# Altium footprint library Capacitor_SMD.PcbLib: 89 footprints (part 2 of 6)
Each footprint in its own frame and in the unit in brackets; x right, y up, seen from the top. Pads: shape width x height; smd on the part's side, far side on the other; paste and mask are expansions set on the pad; w line width, h text height; cw(c..) or ccw(c..) is an arc to the next point about the centre after c.
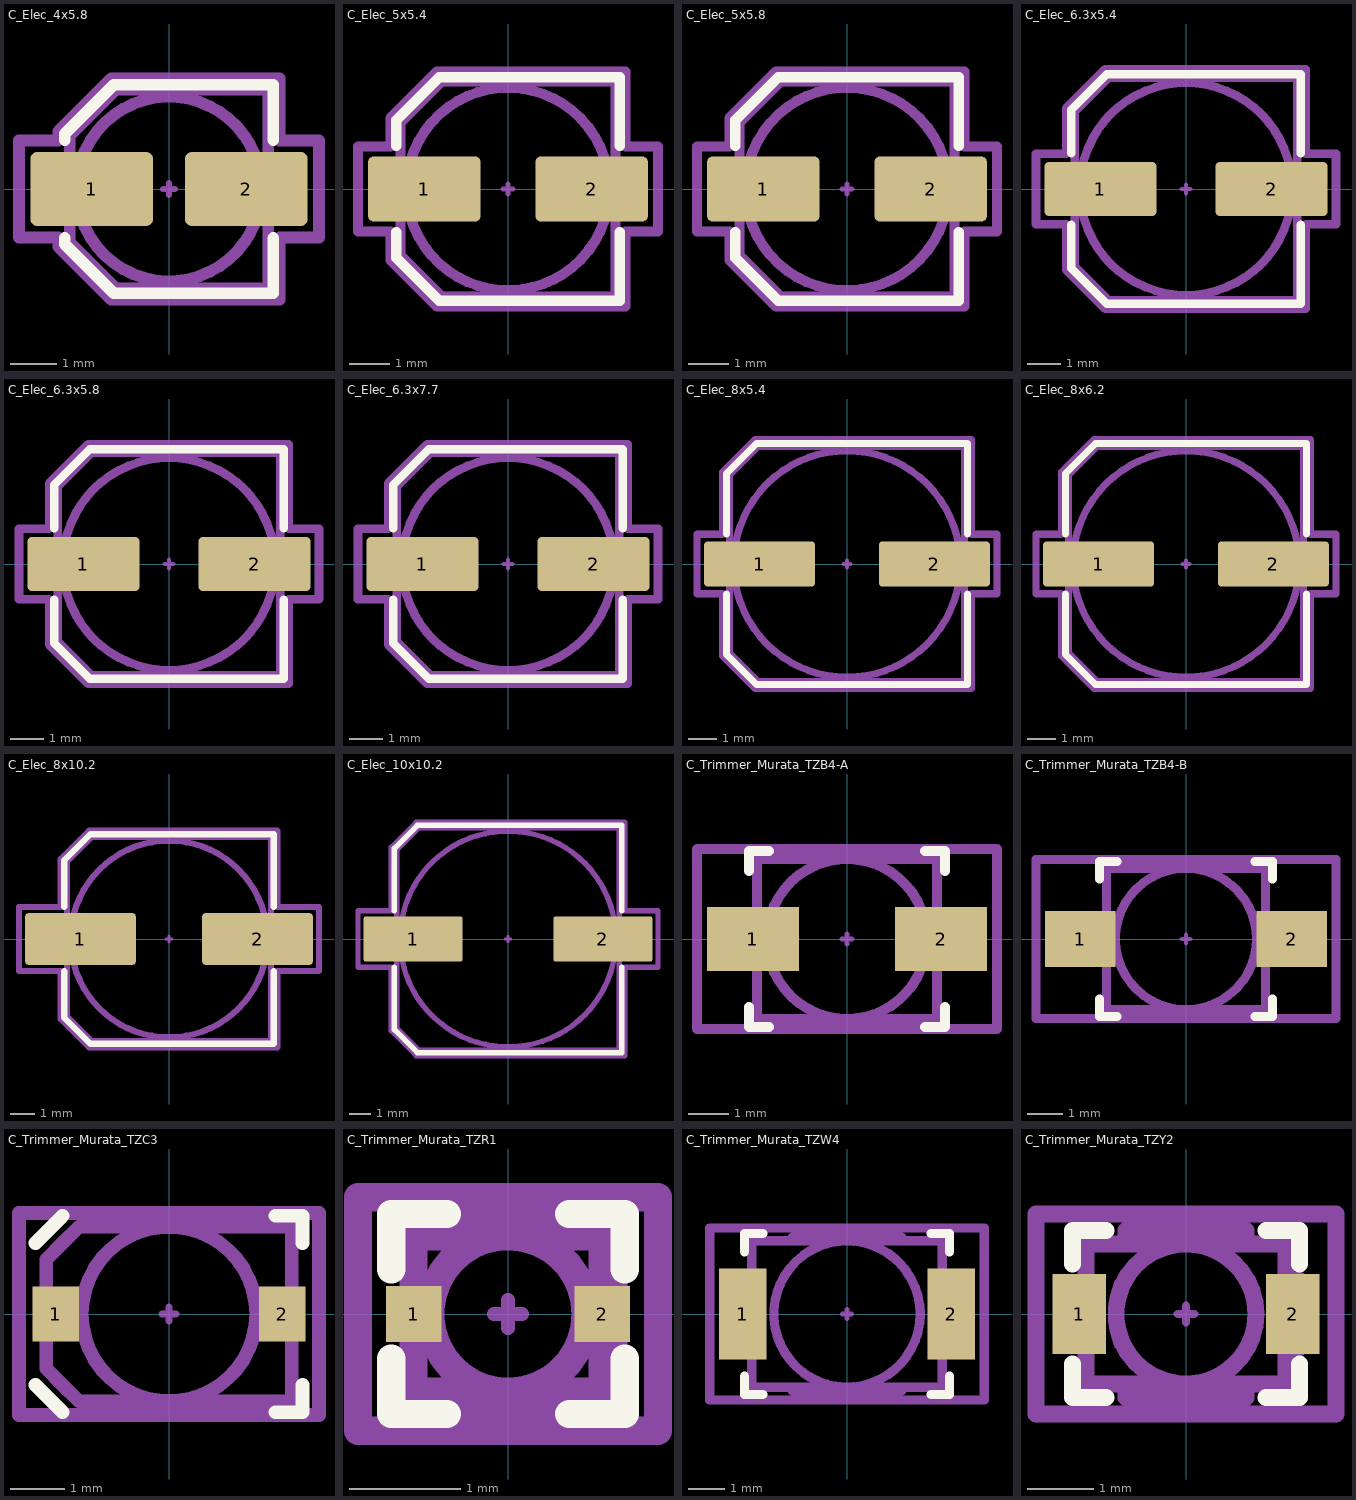
[diagram p1: the footprints below, top view; thin cyan lines are the x and y axes]

## C_Elec_4x5.8 [mm] "C_Elec_4x5.8"
pads (2):
  rrect16% 2.65x1.6 smd: 1(-1.675,0) 2(1.675,0)
F.SilkS:
  lines w0.254: -2.26,-1.06 -2.26,-1.196 -1.196,-2.26 2.26,-2.26 2.26,-1.06 ; -2.26,1.06 -2.26,1.196 -1.196,2.26 2.26,2.26 2.26,1.06
Top Component Center:
  lines w0.127: -0.127,0 0.127,0 ; 0,-0.127 0,0.127
Top Assembly:
  circle w0.254: c0,0 r2
  lines w0.254: -2.15,-1.15 -2.15,1.15 -1.15,2.15 2.15,2.15 2.15,-2.15 -1.15,-2.15 -2.15,-1.15
Top Courtyard:
  lines w0.254: -3.25,-1.05 -3.25,1.05 -2.4,1.05 -2.4,1.25 -1.25,2.4 2.4,2.4 2.4,1.05 3.25,1.05 3.25,-1.05 2.4,-1.05 2.4,-2.4 -1.25,-2.4 -2.4,-1.25 -2.4,-1.05 -3.25,-1.05
Top Designator:
  text ".Designator" at -3.434,-0.345 h1.52
3D body "C_Elec_4x5.8.step": height 5.8, standoff 0, extent -2.75,-2.15 2.75,2.15

## C_Elec_5x5.4 [mm] "C_Elec_5x5.4"
pads (2):
  rrect16% 2.775x1.6 smd: 1(-2.063,0) 2(2.063,0)
F.SilkS:
  lines w0.254: -2.76,-1.06 -2.76,-1.696 -1.696,-2.76 2.76,-2.76 2.76,-1.06 ; -2.76,1.06 -2.76,1.696 -1.696,2.76 2.76,2.76 2.76,1.06
Top Component Center:
  lines w0.127: -0.127,0 0.127,0 ; 0,-0.127 0,0.127
Top Assembly:
  circle w0.254: c0,0 r2.5
  lines w0.254: -2.65,-1.65 -2.65,1.65 -1.65,2.65 2.65,2.65 2.65,-2.65 -1.65,-2.65 -2.65,-1.65
Top Courtyard:
  lines w0.254: -3.7,-1.05 -3.7,1.05 -2.9,1.05 -2.9,1.75 -1.75,2.9 2.9,2.9 2.9,1.05 3.7,1.05 3.7,-1.05 2.9,-1.05 2.9,-2.9 -1.75,-2.9 -2.9,-1.75 -2.9,-1.05 -3.7,-1.05
Top Designator:
  text ".Designator" at -3.434,-0.345 h1.52
3D body "C_Elec_5x5.4.step": height 5.4, standoff 0, extent -3.25,-2.65 3.25,2.65

## C_Elec_5x5.8 [mm] "C_Elec_5x5.8"
pads (2):
  rrect16% 2.775x1.6 smd: 1(-2.063,0) 2(2.063,0)
F.SilkS:
  lines w0.254: -2.76,-1.06 -2.76,-1.696 -1.696,-2.76 2.76,-2.76 2.76,-1.06 ; -2.76,1.06 -2.76,1.696 -1.696,2.76 2.76,2.76 2.76,1.06
Top Component Center:
  lines w0.127: -0.127,0 0.127,0 ; 0,-0.127 0,0.127
Top Assembly:
  circle w0.254: c0,0 r2.5
  lines w0.254: -2.65,-1.65 -2.65,1.65 -1.65,2.65 2.65,2.65 2.65,-2.65 -1.65,-2.65 -2.65,-1.65
Top Courtyard:
  lines w0.254: -3.7,-1.05 -3.7,1.05 -2.9,1.05 -2.9,1.75 -1.75,2.9 2.9,2.9 2.9,1.05 3.7,1.05 3.7,-1.05 2.9,-1.05 2.9,-2.9 -1.75,-2.9 -2.9,-1.75 -2.9,-1.05 -3.7,-1.05
Top Designator:
  text ".Designator" at -3.434,-0.345 h1.52
3D body "C_Elec_5x5.8.step": height 5.8, standoff 0, extent -3.25,-2.65 3.25,2.65

## C_Elec_6.3x5.4 [mm] "C_Elec_6.3x5.4"
pads (2):
  rrect16% 3.325x1.6 smd: 1(-2.538,0) 2(2.538,0)
F.SilkS:
  lines w0.254: -3.41,-1.06 -3.41,-2.346 -2.346,-3.41 3.41,-3.41 3.41,-1.06 ; -3.41,1.06 -3.41,2.346 -2.346,3.41 3.41,3.41 3.41,1.06
Top Component Center:
  lines w0.127: -0.127,0 0.127,0 ; 0,-0.127 0,0.127
Top Assembly:
  circle w0.254: c0,0 r3.15
  lines w0.254: -3.3,-2.3 -3.3,2.3 -2.3,3.3 3.3,3.3 3.3,-3.3 -2.3,-3.3 -3.3,-2.3
Top Courtyard:
  lines w0.254: -4.45,-1.05 -4.45,1.05 -3.55,1.05 -3.55,2.4 -2.4,3.55 3.55,3.55 3.55,1.05 4.45,1.05 4.45,-1.05 3.55,-1.05 3.55,-3.55 -2.4,-3.55 -3.55,-2.4 -3.55,-1.05 -4.45,-1.05
Top Designator:
  text ".Designator" at -3.434,-0.345 h1.52
3D body "C_Elec_6.3x5.4.step": height 5.4, standoff 0, extent -3.9,-3.3 3.9,3.3

## C_Elec_6.3x5.8 [mm] "C_Elec_6.3x5.8"
pads (2):
  rrect16% 3.325x1.6 smd: 1(-2.538,0) 2(2.538,0)
F.SilkS:
  lines w0.254: -3.41,-1.06 -3.41,-2.346 -2.346,-3.41 3.41,-3.41 3.41,-1.06 ; -3.41,1.06 -3.41,2.346 -2.346,3.41 3.41,3.41 3.41,1.06
Top Component Center:
  lines w0.127: -0.127,0 0.127,0 ; 0,-0.127 0,0.127
Top Assembly:
  circle w0.254: c0,0 r3.15
  lines w0.254: -3.3,-2.3 -3.3,2.3 -2.3,3.3 3.3,3.3 3.3,-3.3 -2.3,-3.3 -3.3,-2.3
Top Courtyard:
  lines w0.254: -4.45,-1.05 -4.45,1.05 -3.55,1.05 -3.55,2.4 -2.4,3.55 3.55,3.55 3.55,1.05 4.45,1.05 4.45,-1.05 3.55,-1.05 3.55,-3.55 -2.4,-3.55 -3.55,-2.4 -3.55,-1.05 -4.45,-1.05
Top Designator:
  text ".Designator" at -3.434,-0.345 h1.52
3D body "C_Elec_6.3x5.8.step": height 5.8, standoff 0, extent -3.9,-3.3 3.9,3.3

## C_Elec_6.3x7.7 [mm] "C_Elec_6.3x7.7"
pads (2):
  rrect16% 3.325x1.6 smd: 1(-2.538,0) 2(2.538,0)
F.SilkS:
  lines w0.254: -3.41,-1.06 -3.41,-2.346 -2.346,-3.41 3.41,-3.41 3.41,-1.06 ; -3.41,1.06 -3.41,2.346 -2.346,3.41 3.41,3.41 3.41,1.06
Top Component Center:
  lines w0.127: -0.127,0 0.127,0 ; 0,-0.127 0,0.127
Top Assembly:
  circle w0.254: c0,0 r3.15
  lines w0.254: -3.3,-2.3 -2.3,-3.3 3.3,-3.3 3.3,3.3 -2.3,3.3 -3.3,2.3 -3.3,-2.3
Top Courtyard:
  lines w0.254: -4.45,-1.05 -3.55,-1.05 -3.55,-2.4 -2.4,-3.55 3.55,-3.55 3.55,-1.05 4.45,-1.05 4.45,1.05 3.55,1.05 3.55,3.55 -2.4,3.55 -3.55,2.4 -3.55,1.05 -4.45,1.05 -4.45,-1.05
Top Designator:
  text ".Designator" at -3.434,-0.345 h1.52
3D body "C_Elec_6.3x7.7.step": height 7.7, standoff 0, extent -3.9,-3.3 3.9,3.3

## C_Elec_8x5.4 [mm] "C_Elec_8x5.4"
pads (2):
  rrect16% 3.925x1.6 smd: 1(-3.087,0) 2(3.087,0)
F.SilkS:
  lines w0.254: -4.26,-1.06 -4.26,-3.196 -3.196,-4.26 4.26,-4.26 4.26,-1.06 ; -4.26,1.06 -4.26,3.196 -3.196,4.26 4.26,4.26 4.26,1.06
Top Component Center:
  lines w0.127: -0.127,0 0.127,0 ; 0,-0.127 0,0.127
Top Assembly:
  circle w0.254: c0,0 r4
  lines w0.254: -4.15,-3.15 -4.15,3.15 -3.15,4.15 4.15,4.15 4.15,-4.15 -3.15,-4.15 -4.15,-3.15
Top Courtyard:
  lines w0.254: -5.3,-1.05 -5.3,1.05 -4.4,1.05 -4.4,3.25 -3.25,4.4 4.4,4.4 4.4,1.05 5.3,1.05 5.3,-1.05 4.4,-1.05 4.4,-4.4 -3.25,-4.4 -4.4,-3.25 -4.4,-1.05 -5.3,-1.05
Top Designator:
  text ".Designator" at -3.434,-0.345 h1.52
3D body "C_Elec_8x5.4.step": height 5.4, standoff 0, extent -4.75,-4.15 4.75,4.15

## C_Elec_8x6.2 [mm] "C_Elec_8x6.2"
pads (2):
  rrect16% 3.925x1.6 smd: 1(-3.087,0) 2(3.087,0)
F.SilkS:
  lines w0.254: -4.26,-1.06 -4.26,-3.196 -3.196,-4.26 4.26,-4.26 4.26,-1.06 ; -4.26,1.06 -4.26,3.196 -3.196,4.26 4.26,4.26 4.26,1.06
Top Component Center:
  lines w0.127: -0.127,0 0.127,0 ; 0,-0.127 0,0.127
Top Assembly:
  circle w0.254: c0,0 r4
  lines w0.254: -4.15,-3.15 -3.15,-4.15 4.15,-4.15 4.15,4.15 -3.15,4.15 -4.15,3.15 -4.15,-3.15
Top Courtyard:
  lines w0.254: -5.3,-1.05 -4.4,-1.05 -4.4,-3.25 -3.25,-4.4 4.4,-4.4 4.4,-1.05 5.3,-1.05 5.3,1.05 4.4,1.05 4.4,4.4 -3.25,4.4 -4.4,3.25 -4.4,1.05 -5.3,1.05 -5.3,-1.05
Top Designator:
  text ".Designator" at -3.434,-0.345 h1.52
3D body "C_Elec_8x6.2.step": height 6.2, standoff 0, extent -4.75,-4.15 4.75,4.15

## C_Elec_8x10.2 [mm] "C_Elec_8x10.2"
pads (2):
  rrect12% 4.5x2.1 smd: 1(-3.6,0) 2(3.6,0)
F.SilkS:
  lines w0.254: -4.26,-1.31 -4.26,-3.196 -3.196,-4.26 4.26,-4.26 4.26,-1.31 ; -4.26,1.31 -4.26,3.196 -3.196,4.26 4.26,4.26 4.26,1.31
Top Component Center:
  lines w0.127: -0.127,0 0.127,0 ; 0,-0.127 0,0.127
Top Assembly:
  circle w0.254: c0,0 r4
  lines w0.254: -4.15,-3.15 -4.15,3.15 -3.15,4.15 4.15,4.15 4.15,-4.15 -3.15,-4.15 -4.15,-3.15
Top Courtyard:
  lines w0.254: -6.1,-1.3 -6.1,1.3 -4.4,1.3 -4.4,3.25 -3.25,4.4 4.4,4.4 4.4,1.3 6.1,1.3 6.1,-1.3 4.4,-1.3 4.4,-4.4 -3.25,-4.4 -4.4,-3.25 -4.4,-1.3 -6.1,-1.3
Top Designator:
  text ".Designator" at -3.434,-0.345 h1.52
3D body "C_Elec_8x10.2.step": height 10.2, standoff 0, extent -4.75,-4.15 4.75,4.15

## C_Elec_10x10.2 [mm] "C_Elec_10x10.2"
pads (2):
  rrect12% 4.6x2.1 smd: 1(-4.4,0) 2(4.4,0)
F.SilkS:
  lines w0.254: -5.26,-1.31 -5.26,-4.196 -4.196,-5.26 5.26,-5.26 5.26,-1.31 ; -5.26,1.31 -5.26,4.196 -4.196,5.26 5.26,5.26 5.26,1.31
Top Component Center:
  lines w0.127: -0.127,0 0.127,0 ; 0,-0.127 0,0.127
Top Assembly:
  circle w0.254: c0,0 r5
  lines w0.254: -5.15,-4.15 -4.15,-5.15 5.15,-5.15 5.15,5.15 -4.15,5.15 -5.15,4.15 -5.15,-4.15
Top Courtyard:
  lines w0.254: -6.95,-1.3 -5.4,-1.3 -5.4,-4.25 -4.25,-5.4 5.4,-5.4 5.4,-1.3 6.95,-1.3 6.95,1.3 5.4,1.3 5.4,5.4 -4.25,5.4 -5.4,4.25 -5.4,1.3 -6.95,1.3 -6.95,-1.3
Top Designator:
  text ".Designator" at -3.434,-0.345 h1.52
3D body "C_Elec_10x10.2.step": height 10.2, standoff 0, extent -5.75,-5.15 5.75,5.15

## C_Trimmer_Murata_TZB4-A [mm] "C_Trimmer_Murata_TZB4-A"
pads (2):
  rect 2.3x1.6 smd: 1(-2.35,0) 2(2.35,0)
F.SilkS:
  lines w0.254: -2.45,-1.7 -2.45,-2.2 -1.95,-2.2 ; -2.45,1.7 -2.45,2.2 -1.95,2.2 ; 1.95,-2.2 2.45,-2.2 2.45,-1.7 ; 1.95,2.2 2.45,2.2 2.45,1.7
Top Component Center:
  lines w0.127: -0.127,0 0.127,0 ; 0,-0.127 0,0.127
Top Assembly:
  circle w0.254: c0,0 r2
  lines w0.254: -2.25,-0.6 -2.5,-0.6 -2.5,0.6 -2.25,0.6 ; 2.25,-0.6 2.5,-0.6 2.5,0.6 2.25,0.6 ; -2.25,-2 -2.24,-2 2.24,-2 2.25,-2 2.25,-1.99 2.25,1.99 2.25,2 2.24,2 -2.24,2 -2.25,2 -2.25,1.99 -2.25,-1.99 -2.25,-2
Top Courtyard:
  lines w0.254: -3.75,-2.25 3.75,-2.25 3.75,2.25 -3.75,2.25 -3.75,-2.25
Top Designator:
  text ".Designator" at -3.434,-0.345 h1.52
3D body "C_Trimmer_Murata_TZB4-A.step": height 3.11, standoff 0.01, extent -2.5,-2 2.5,2

## C_Trimmer_Murata_TZB4-B [mm] "C_Trimmer_Murata_TZB4-B"
pads (2):
  rect 2x1.6 smd: 1(-3,0) 2(3,0)
F.SilkS:
  lines w0.254: -2.45,-1.7 -2.45,-2.2 -1.95,-2.2 ; -2.45,1.7 -2.45,2.2 -1.95,2.2 ; 1.95,-2.2 2.45,-2.2 2.45,-1.7 ; 1.95,2.2 2.45,2.2 2.45,1.7
Top Component Center:
  lines w0.127: -0.127,0 0.127,0 ; 0,-0.127 0,0.127
Top Assembly:
  circle w0.254: c0,0 r2
  lines w0.254: -2.25,-0.6 -3.5,-0.6 -3.5,0.6 -2.25,0.6 ; 2.25,-0.6 3.5,-0.6 3.5,0.6 2.25,0.6 ; -2.25,-2 -2.25,-1.99 -2.25,1.99 -2.25,2 -2.24,2 2.24,2 2.25,2 2.25,1.99 2.25,-1.99 2.25,-2 2.24,-2 -2.24,-2 -2.25,-2
Top Courtyard:
  lines w0.254: -4.25,-2.25 -4.25,2.25 4.25,2.25 4.25,-2.25 -4.25,-2.25
Top Designator:
  text ".Designator" at -3.434,-0.345 h1.52
3D body "C_Trimmer_Murata_TZB4-B.step": height 3.11, standoff 0.01, extent -3.467,-2 3.467,2

## C_Trimmer_Murata_TZC3 [mm] "C_Trimmer_Murata_TZC3"
pads (2):
  rect 0.85x1 smd: 1(-2.075,0) 2(2.075,0)
F.SilkS:
  lines w0.254: -2.45,-1.3 -1.95,-1.8 ; -2.45,1.3 -1.95,1.8 ; 1.95,-1.8 2.45,-1.8 2.45,-1.3 ; 1.95,1.8 2.45,1.8 2.45,1.3
Top Component Center:
  lines w0.127: -0.127,0 0.127,0 ; 0,-0.127 0,0.127
Top Assembly:
  circle w0.254: c0,0 r1.6
  lines w0.254: -2.25,-1 -1.95,-1.3 -1.65,-1.6 2.24,-1.6 2.25,-1.6 2.25,-1.59 2.25,1.59 2.25,1.6 2.24,1.6 -1.65,1.6 -1.95,1.3 -2.25,1 -2.25,-1
Top Courtyard:
  lines w0.254: -2.75,-1.85 2.75,-1.85 2.75,1.85 -2.75,1.85 -2.75,-1.85
Top Designator:
  text ".Designator" at -3.434,-0.345 h1.52
3D body "C_Trimmer_Murata_TZC3.step": height 1.61, standoff 0.01, extent -2.25,-1.6 2.25,1.6

## C_Trimmer_Murata_TZR1 [mm] "C_Trimmer_Murata_TZR1"
pads (2):
  rect 0.5x0.5 smd: 1(-0.85,0) 2(0.85,0)
F.SilkS:
  lines w0.254: -1.05,-0.4 -1.05,-0.9 -0.55,-0.9 ; -1.05,0.4 -1.05,0.9 -0.55,0.9 ; 0.55,-0.9 1.05,-0.9 1.05,-0.4 ; 0.55,0.9 1.05,0.9 1.05,0.4
Top Component Center:
  lines w0.127: -0.127,0 0.127,0 ; 0,-0.127 0,0.127
Top Assembly:
  circle w0.254: c0,0 r0.7
  lines w0.254: -0.45,-0.7 -0.45,-0.8 0.45,-0.8 0.45,-0.7 ; -0.45,0.7 -0.45,0.8 0.45,0.8 0.45,0.7 ; 0.85,-0.3 0.95,-0.3 0.95,0.3 0.85,0.3 ; -0.85,-0.7 -0.84,-0.7 0.84,-0.7 0.85,-0.7 0.85,-0.69 0.85,0.69 0.85,0.7 0.84,0.7 -0.84,0.7 -0.85,0.7 -0.85,0.69 -0.85,-0.69 -0.85,-0.7
Top Courtyard:
  lines w0.254: -1.35,-1.05 1.35,-1.05 1.35,1.05 -1.35,1.05 -1.35,-1.05
Top Designator:
  text ".Designator" at -1.176,-0.113 h0.5
3D body "C_Trimmer_Murata_TZR1.step": height 0.91, standoff 0.01, extent -0.85,-0.75 0.85,0.75

## C_Trimmer_Murata_TZW4 [mm] "C_Trimmer_Murata_TZW4"
pads (2):
  rect 1.3x2.5 smd: 1(-2.85,0) 2(2.85,0)
F.SilkS:
  lines w0.254: -2.8,-1.7 -2.8,-2.2 -2.3,-2.2 ; -2.8,1.7 -2.8,2.2 -2.3,2.2 ; 2.3,-2.2 2.8,-2.2 2.8,-1.7 ; 2.3,2.2 2.8,2.2 2.8,1.7
Top Component Center:
  lines w0.127: -0.127,0 0.127,0 ; 0,-0.127 0,0.127
Top Assembly:
  circle w0.254: c0,0 r2
  lines w0.254: -1.5,-2 -1.5,-2.1 1.5,-2.1 1.5,-2 ; -1.5,2 -1.5,2.1 1.5,2.1 1.5,2 ; -2.6,-2 -2.6,-1.99 -2.6,1.99 -2.6,2 -2.59,2 2.59,2 2.6,2 2.6,1.99 2.6,-1.99 2.6,-2 2.59,-2 -2.59,-2 -2.6,-2
Top Courtyard:
  lines w0.254: -3.75,-2.35 -3.75,2.35 3.75,2.35 3.75,-2.35 -3.75,-2.35
Top Designator:
  text ".Designator" at -3.434,-0.345 h1.52
3D body "C_Trimmer_Murata_TZW4.step": height 2.61, standoff 0.01, extent -2.6,-2.1 2.6,2.1

## C_Trimmer_Murata_TZY2 [mm] "C_Trimmer_Murata_TZY2"
pads (2):
  rect 0.8x1.2 smd: 1(-1.6,0) 2(1.6,0)
F.SilkS:
  lines w0.254: -1.7,-0.75 -1.7,-1.25 -1.2,-1.25 ; -1.7,0.75 -1.7,1.25 -1.2,1.25 ; 1.2,-1.25 1.7,-1.25 1.7,-0.75 ; 1.2,1.25 1.7,1.25 1.7,0.75
Top Component Center:
  lines w0.127: -0.127,0 0.127,0 ; 0,-0.127 0,0.127
Top Assembly:
  circle w0.254: c0,0 r1.05
  lines w0.254: -0.9,-1.05 -0.9,-1.25 0.9,-1.25 0.9,-1.05 ; -0.9,1.05 -0.9,1.25 0.9,1.25 0.9,1.05 ; 1.5,-0.5 1.7,-0.5 1.7,0.5 1.5,0.5 ; -1.5,-1.05 -1.49,-1.05 1.49,-1.05 1.5,-1.05 1.5,-1.04 1.5,1.04 1.5,1.05 1.49,1.05 -1.49,1.05 -1.5,1.05 -1.5,1.04 -1.5,-1.04 -1.5,-1.05
Top Courtyard:
  lines w0.254: -2.25,-1.5 2.25,-1.5 2.25,1.5 -2.25,1.5 -2.25,-1.5
Top Designator:
  text ".Designator" at -2.253,-0.227 h1
3D body "C_Trimmer_Murata_TZY2.step": height 1.26, standoff 0.01, extent -1.6,-1.25 1.6,1.25